# Altium schematic symbol library flyback.SchLib: 11 symbols
Pins are listed as number, name and electrical type; pins without a type are passive.

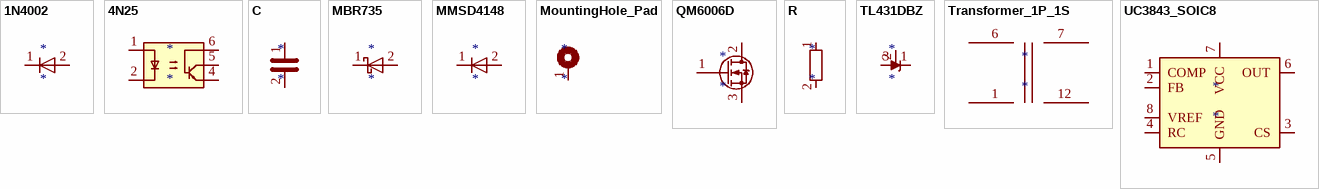
[diagram p0: symbols 1N4002 to UC3843_SOIC8]

## 1N4002
designator *
pins: 1 K, 2 A

## 4N25
designator *
pins: 1, 2, 3 NC hidden, 4, 5, 6

## C
designator *
pins: 1, 2

## MBR735
designator *
pins: 1 K, 2 A

## MMSD4148
designator *
pins: 1 K, 2 A

## MountingHole_Pad
designator *
pins: 1

## QM6006D
designator *
pins: 1 G, 2 D, 3 S

## R
designator *
pins: 1, 2

## TL431DBZ
designator *
pins: 1 K, 2 REF, 3 A

## Transformer_1P_1S
designator *
pins: 1 AB, 6 AA, 7 SB, 12 SA

## UC3843_SOIC8
designator *
pins: 1 COMP, 2 FB, 3 CS, 4 RC, 5 GND, 6 OUT, 7 VCC, 8 VREF